# Altium footprint library nrf52840_TM7711_S.PcbLib: 17 footprints (part 1 of 2)
Each footprint in its own frame and in the unit in brackets; x right, y up, seen from the top. Pads: shape width x height; smd on the part's side, far side on the other; paste and mask are expansions set on the pad; w line width, h text height; cw(c..) or ccw(c..) is an arc to the next point about the centre after c.
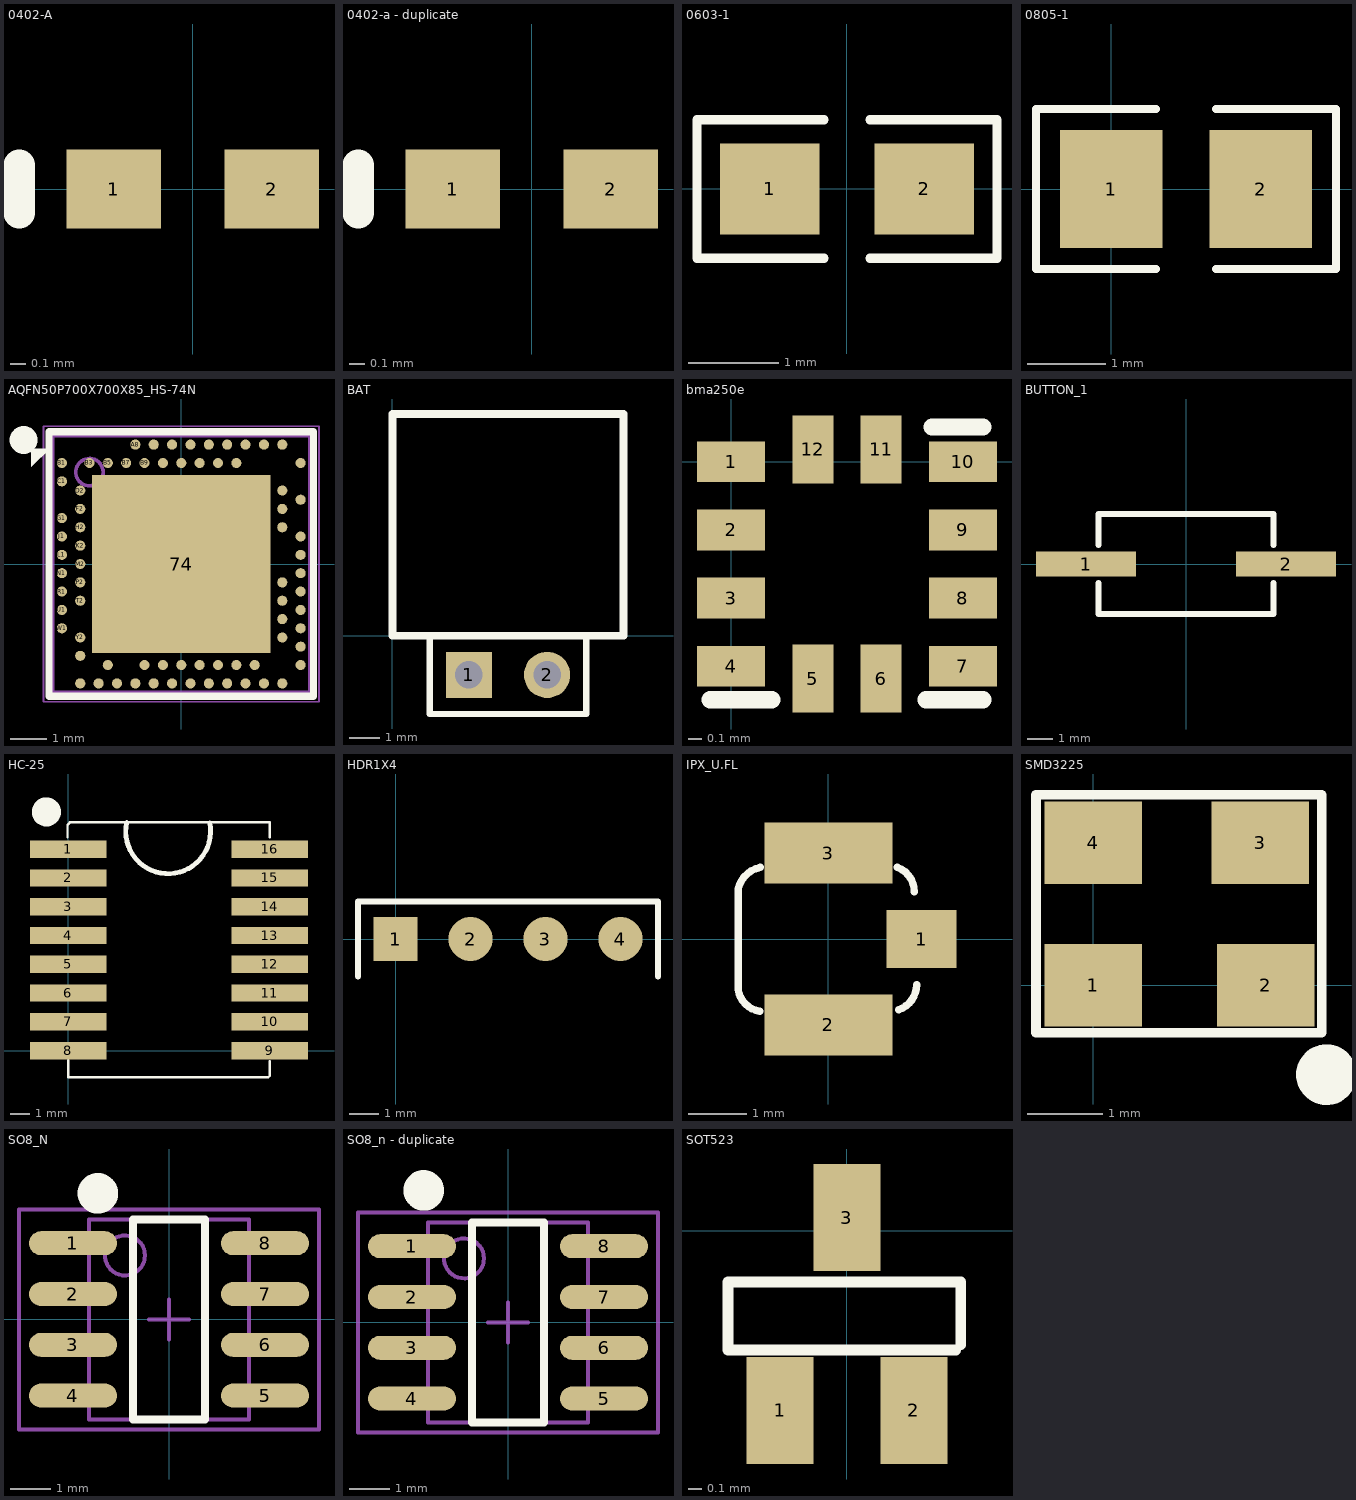
[diagram p0: the footprints below, top view; thin cyan lines are the x and y axes]

## 0402-A [mm] "Chip Inductor; Body 1 x 0.5 mm (LxW typ)"
height 0.55
pads (2):
  rect 0.6x0.5 smd: 1(-0.5,0) 2(0.5,0)
Top Overlay:
  lines w0.2: -1.1,-0.15 -1.1,0.15

## 0402-a - duplicate [mm]
pads (2):
  rect 0.6x0.5 smd: 1(-0.5,0) 2(0.5,0)
Top Overlay:
  lines w0.2: -1.1,-0.15 -1.1,0.15

## 0603-1 [mm]
height 0.6
pads (2):
  rect 1.1x1 smd: 1(-0.85,0) 2(0.85,0)
Top Overlay:
  lines w0.1: -0.254,-0.762 -1.651,-0.762 -1.651,0.762 -0.254,0.762 ; 0.254,-0.762 1.651,-0.762 1.651,0.762 0.254,0.762
3D body: height 1, standoff 0, extent -1.143,-0.381 1.143,0.381

## 0805-1 [mm]
height 0.55
pads (2):
  rect 1.3x1.5 smd: 1(0,0) 2(1.9,0)
Top Overlay:
  lines w0.1: 0.569,-1.016 -0.955,-1.016 -0.955,1.016 0.569,1.016 ; 1.331,-1.016 2.855,-1.016 2.855,1.016 1.331,1.016

## AQFN50P700X700X85_HS-74N [mm]
height 1.75
pads (74):
  rect 4.85x4.85 smd mask+0.05: 74(0,0)
  round 0.275 smd paste+0.012 mask+0.05: A8(-1.25,3.25) A10(-0.75,3.25) A12(-0.25,3.25) A14(0.25,3.25) A16(0.75,3.25) A18(1.25,3.25) A20(1.75,3.25) A22(2.25,3.25) A23(2.75,3.25) AA24(3.25,-2.25) AB2(-2.75,-2.5) AC5(-2,-2.75) AC9(-1,-2.75) AC11(-0.5,-2.75) AC13(0,-2.75) AC15(0.5,-2.75) AC17(1,-2.75) AC19(1.5,-2.75) AC21(2,-2.75) AC24(3.25,-2.75) AD2(-2.75,-3.25) AD4(-2.25,-3.25) AD6(-1.75,-3.25) AD8(-1.25,-3.25) AD10(-0.75,-3.25) AD12(-0.25,-3.25) AD14(0.25,-3.25) AD16(0.75,-3.25) AD18(1.25,-3.25) AD20(1.75,-3.25) AD22(2.25,-3.25) AD23(2.75,-3.25) B1(-3.25,2.75) B3(-2.5,2.75) B5(-2,2.75) B7(-1.5,2.75) B9(-1,2.75) B11(-0.5,2.75) B13(0,2.75) B15(0.5,2.75) B17(1,2.75) B19(1.5,2.75) B24(3.25,2.75) C1(-3.25,2.25) D2(-2.75,2) D23(2.75,2) E24(3.25,1.75) F2(-2.75,1.5) F23(2.75,1.5) G1(-3.25,1.25) H2(-2.75,1) H23(2.75,1) J1(-3.25,0.75) J24(3.25,0.75) K2(-2.75,0.5) L1(-3.25,0.25) L24(3.25,0.25) M2(-2.75,0) N1(-3.25,-0.25) N24(3.25,-0.25) P2(-2.75,-0.5) P23(2.75,-0.5) R1(-3.25,-0.75) R24(3.25,-0.75) T2(-2.75,-1) T23(2.75,-1) U1(-3.25,-1.25) U24(3.25,-1.25) V23(2.75,-1.5) W1(-3.25,-1.75) W24(3.25,-1.75) Y2(-2.75,-2) Y23(2.75,-2)
Top Overlay:
  circle w0.508: c-4.293,3.376 r0.125
  region: -3.584,3.144 -4.084,2.644 -4.084,3.144
  lines w0.2: -3.6,-3.6 3.6,-3.6 3.6,3.6 -3.6,3.6 -3.6,-3.6
Mechanical 7:
  circle w0.1: c-2.5,2.5 r0.373
  lines w0.1: -3.5,-3.5 -3.5,3.5 3.5,3.5 3.5,-3.5 -3.5,-3.5
  text ".Designator" at -0.178,-0.152 h0.3
Mechanical 15:
  lines w0.05: -3.75,-3.75 3.75,-3.75 3.75,3.75 -3.75,3.75 -3.75,-3.75
  lines w0.1: -0.5,0 0.5,0 ; 0,-0.5 0,0.5
3D body: height 0.85, standoff 0, extent -3.55,-3.55 3.55,3.55

## BAT [mm]
pads (2):
  rect 1.5x1.5 hole 0.9: 1(2.48,-1.27)
  round 1.5 hole 0.9: 2(5.02,-1.27)
Top Overlay:
  lines w0.2: 1.21,-2.54 6.29,-2.54 6.29,0 1.21,0 1.21,-2.54
  lines w0.254: 0,0 0,7.2 7.5,7.2 7.5,0 3.75,0 0,0

## bma250e [mm]
height 1.75
pads (12):
  rect 0.5x0.3 smd: 1(0,0) 2(0,-0.5) 3(0,-1) 4(0,-1.5) 7(1.7,-1.5) 8(1.7,-1) 9(1.7,-0.5) 10(1.7,0)
  rect 0.3x0.5 smd: 5(0.6,-1.59) 6(1.1,-1.59) 11(1.1,0.09) 12(0.6,0.09)
Top Overlay:
  lines w0.127: -0.152,-1.746 0.298,-1.746 ; 1.429,-1.746 1.848,-1.746 ; 1.473,0.254 1.848,0.254
  text "." at -0.076,0.356 h0.2

## BUTTON_1 [mm]
pads (2):
  rect 4x1 smd: 1(-4,0) 2(4,0)
Top Overlay:
  lines w0.254: -3.5,-0.762 -3.5,-2 0,-2 3.5,-2 3.5,-0.762 ; -3.5,0.762 -3.5,2 0,2 3.5,2 3.5,0.762

## HC-25 [mm]
pads (16):
  rect 4x0.9 smd: 1(0,10.5) 2(0,9) 3(0,7.5) 4(0,6) 5(0,4.5) 6(0,3) 7(0,1.5) 8(0,0) 9(10.5,0) 10(10.5,1.5) 11(10.5,3) 12(10.5,4.5) 13(10.5,6) 14(10.5,7.5) 15(10.5,9) 16(10.5,10.5)
Top Overlay:
  circle w0.8: c-1.143,12.446 r0.359
  lines w0.127: -0.041,11.135 -0.041,11.77 0.086,11.897 10.5,11.897 10.5,11.135 ; 0,-0.508 0,-1.397 10.414,-1.397 10.5,-1.311 10.5,-0.549
  lines w0.254: 3.048,11.897 ccw(c5.207,11.43) 7.371,11.872

## HDR1X4 [mm] "Connector; Header; 4 Position"
pads (4):
  rect 1.5x1.5 smd: 1(0,0)
  round 1.5 smd: 2(2.54,0) 3(5.08,0) 4(7.62,0)
Top Overlay:
  lines w0.2: -1.27,-1.27 -1.27,1.27 8.89,1.27 8.89,-1.27

## IPX_U.FL [mm]
height 1.75
pads (3):
  rect 1.2x1 smd: 1(1.6,0)
  rect 2.2x1.05 smd: 2(0,-1.475) 3(0,1.475)
Top Overlay:
  lines w0.127: -1.55,-0.54 -1.55,0.85 cw(c-1.067,0.747) -1.17,1.23 ; -1.55,-0.3 -1.55,-0.87 ccw(c-1.108,-0.798) -1.18,-1.24 ; 1.184,1.231 cw(c1.026,0.809) 1.476,0.809 ; 1.206,-1.214 ccw(c1.064,-0.787) 1.514,-0.787

## PCBComponent_1 [mm]

## SMD3225 [mm]
height 0.55
pads (4):
  rect 1.3x1.1 smd: 1(0,0) 2(2.3,0) 3(2.23,1.9) 4(0,1.9)
Top Overlay:
  circle w0.554: c3.112,-1.195 r0.127
  lines w0.127: -0.762,-0.635 -0.762,2.54 3.048,2.54 3.048,-0.635 -0.762,-0.635

## SO8_N [mm] "SOIC, 8-Leads, Body 4.9x3.9mm, Pitch 1.27mm, IPC Medium Density"
height 1.75
pads (8):
  oval 2.2x0.6 smd: 1(-2.4,1.905) 2(-2.4,0.635) 3(-2.4,-0.635) 4(-2.4,-1.905) 5(2.4,-1.905) 6(2.4,-0.635) 7(2.4,0.635) 8(2.4,1.905)
Top Overlay:
  circle w0.762: c-1.778,3.152 r0.125
  lines w0.2: -0.9,-2.5 -0.9,2.5 0.9,2.5 0.9,-2.5 -0.9,-2.5
Mechanical 13:
  circle w0.1: c-1.1,1.6 r0.5
  lines w0.1: -2,-2.5 -2,2.5 2,2.5 2,-2.5 -2,-2.5
Mechanical 15:
  lines w0.1: -0.5,0 0.5,0 ; 0,-0.5 0,0.5 ; -3.75,-2.75 -3.75,2.75 3.75,2.75 3.75,-2.75 -3.75,-2.75
3D body: height 1.75, standoff 0, extent -2.787,-1.636 1.213,3.364

## SO8_n - duplicate [mm]
pads (8):
  oval 2.2x0.6 smd: 1(-2.4,1.905) 2(-2.4,0.635) 3(-2.4,-0.635) 4(-2.4,-1.905) 5(2.4,-1.905) 6(2.4,-0.635) 7(2.4,0.635) 8(2.4,1.905)
Top Overlay:
  circle w0.762: c-2.108,3.3 r0.125
  lines w0.2: -0.9,-2.5 -0.9,2.5 0.9,2.5 0.9,-2.5 -0.9,-2.5
Mechanical 13:
  circle w0.1: c-1.1,1.6 r0.5
  lines w0.1: -2,-2.5 -2,2.5 2,2.5 2,-2.5 -2,-2.5
Mechanical 15:
  lines w0.1: -0.5,0 0.5,0 ; 0,-0.5 0,0.5 ; -3.75,-2.75 -3.75,2.75 3.75,2.75 3.75,-2.75 -3.75,-2.75
3D body: height 1.75, standoff 0, extent -2,-2.5 2,2.5

## SOT523 [mm]
height 0.55
pads (3):
  rect 0.5x0.8 smd: 1(-0.5,-1.34) 2(0.5,-1.34) 3(0,0.1)
Top Overlay:
  lines w0.08: -0.508,-0.889 0.811,-0.889 -0.889,-0.889 -0.889,-0.381 0.85,-0.381 0.85,-0.85